# Altium schematic symbol library Schlib1.SchLib: 3 symbols
Pins are listed as number, name and electrical type; pins without a type are passive.

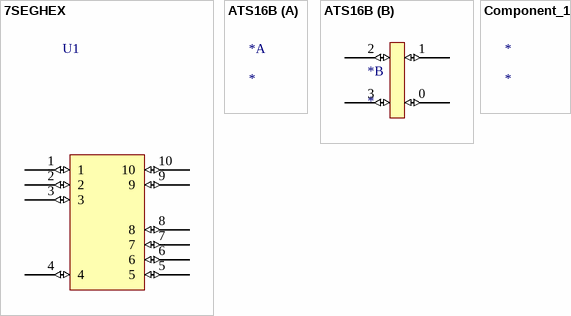
[diagram p0: symbols 7SEGHEX to Component_1]

## 7SEGHEX
designator U1
7 segment Hex display
footprint 7SEGHEX
pins: 1 (io), 2 (io), 3 (io), 4 (io), 5 (io), 6 (io), 7 (io), 8 (io), 9 (io), 10 (io)

## ATS16B
designator *
footprint ATS16B (Footprint not found)
part B pins: 0 (io), 1 0 (io), 2 0 (io), 3 0 (io)

## Component_1
designator *